# EAGLE library part ARM-JTAG-20 (library atmel-avr32)
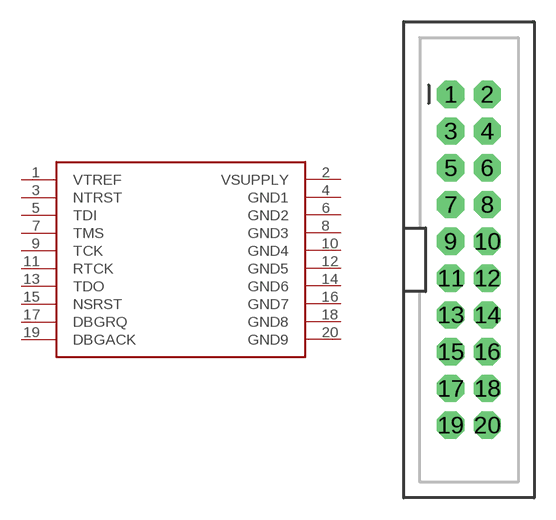
[diagram p4: symbol with the pads of 2X10-SHROUDED; footprint 2X10-SHROUDED]

Designator prefix -

## ARM-JTAG-20  [2X10-SHROUDED]
1  VTREF
2  VSUPPLY
3  NTRST
4  GND1
5  TDI
6  GND2
7  TMS
8  GND3
9  TCK
10  GND4
11  RTCK
12  GND5
13  TDO
14  GND6
15  NSRST
16  GND7
17  DBGRQ
18  GND8
19  DBGACK
20  GND9

## Footprint 2X10-SHROUDED (pad centres in mm)
drill 1.016 pad 1.88 octagon: 1 -1.27,11.43; 2 1.27,11.43; 3 -1.27,8.89; 4 1.27,8.89; 5 -1.27,6.35; 6 1.27,6.35; 7 -1.27,3.81; 8 1.27,3.81; 9 -1.27,1.27; 10 1.27,1.27; 11 -1.27,-1.27; 12 1.27,-1.27; 13 -1.27,-3.81; 14 1.27,-3.81; 15 -1.27,-6.35; 16 1.27,-6.35; 17 -1.27,-8.89; 18 1.27,-8.89; 19 -1.27,-11.43; 20 1.27,-11.43